# Altium footprint library STM32WL33CCV7.PcbLib: 1 footprints
Each footprint in its own frame and in the unit in brackets; x right, y up, seen from the top. Pads: shape width x height; smd on the part's side, far side on the other; paste and mask are expansions set on the pad; w line width, h text height; cw(c..) or ccw(c..) is an arc to the next point about the centre after c.
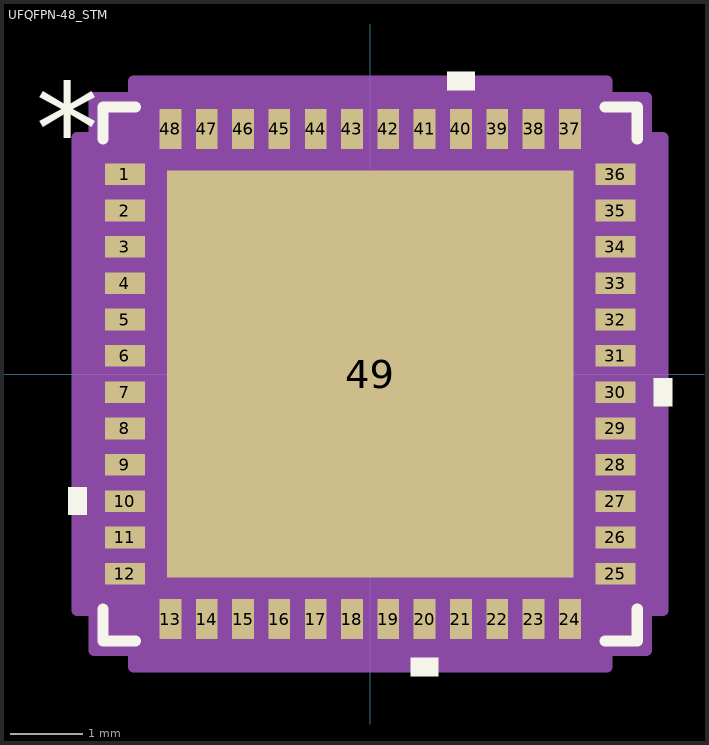
[diagram p0: the footprint, top view; thin cyan lines are the x and y axes]

## UFQFPN-48_STM [mm]
pads (49):
  rect 0.55x0.3 smd paste-0.15 mask-0.279: 1(-3.375,2.751) 2(-3.375,2.251) 3(-3.375,1.75) 4(-3.375,1.25) 5(-3.375,0.75) 6(-3.375,0.25) 7(-3.375,-0.25) 8(-3.375,-0.75) 9(-3.375,-1.25) 10(-3.375,-1.75) 11(-3.375,-2.251) 12(-3.375,-2.751) 25(3.375,-2.751) 26(3.375,-2.251) 27(3.375,-1.75) 28(3.375,-1.25) 29(3.375,-0.75) 30(3.375,-0.25) 31(3.375,0.25) 32(3.375,0.75) 33(3.375,1.25) 34(3.375,1.75) 35(3.375,2.251) 36(3.375,2.751)
  rect 0.3x0.55 smd paste-0.15 mask-0.279: 13(-2.75,-3.375) 14(-2.25,-3.375) 15(-1.75,-3.375) 16(-1.25,-3.375) 17(-0.75,-3.375) 18(-0.25,-3.375) 19(0.25,-3.375) 20(0.75,-3.375) 21(1.25,-3.375) 22(1.75,-3.375) 23(2.25,-3.375) 24(2.75,-3.375) 37(2.75,3.375) 38(2.25,3.375) 39(1.75,3.375) 40(1.25,3.375) 41(0.75,3.375) 42(0.25,3.375) 43(-0.25,3.375) 44(-0.75,3.375) 45(-1.25,3.375) 46(-1.75,3.375) 47(-2.25,3.375) 48(-2.75,3.375)
  rect 5.6x5.6 smd paste-2.8 mask-2.794: 49(0,0)
Top Layer:
  region: 0,2.8
  region: 0,-2.8
Top Overlay:
  region: -3.904,-1.56 -4.158,-1.56 -4.158,-1.941 -3.904,-1.941
  region: 0.941,-3.904 0.56,-3.904 0.56,-4.158 0.941,-4.158
  region: 3.904,-0.06 4.158,-0.06 4.158,-0.441 3.904,-0.441
  region: 1.441,3.904 1.06,3.904 1.06,4.158 1.441,4.158
  lines w0.152: -3.677,-3.232 -3.677,-3.677 -3.232,-3.677 ; -3.677,3.232 -3.677,3.677 -3.232,3.677 ; 3.232,-3.677 3.677,-3.677 3.677,-3.232 ; 3.232,3.677 3.677,3.677 3.677,3.232
  text "*" at -4.603,2.747 h1.27
Top Paste:
  region: -1.5,2.7 -2.7,2.7 -2.7,1.5 -1.5,1.5
  region: -1.5,1.3 -2.7,1.3 -2.7,0.1 -1.5,0.1
  region: -1.5,-0.1 -2.7,-0.1 -2.7,-1.3 -1.5,-1.3
  region: -1.5,-1.5 -2.7,-1.5 -2.7,-2.7 -1.5,-2.7
  region: -0.1,2.7 -1.3,2.7 -1.3,1.5 -0.1,1.5
  region: -0.1,1.3 -1.3,1.3 -1.3,0.1 -0.1,0.1
  region: -0.1,-0.1 -1.3,-0.1 -1.3,-1.3 -0.1,-1.3
  region: -0.1,-1.5 -1.3,-1.5 -1.3,-2.7 -0.1,-2.7
  region: 1.3,2.7 0.1,2.7 0.1,1.5 1.3,1.5
  region: 1.3,1.3 0.1,1.3 0.1,0.1 1.3,0.1
  region: 1.3,-0.1 0.1,-0.1 0.1,-1.3 1.3,-1.3
  region: 1.3,-1.5 0.1,-1.5 0.1,-2.7 1.3,-2.7
  region: 2.7,2.7 1.5,2.7 1.5,1.5 2.7,1.5
  region: 2.7,1.3 1.5,1.3 1.5,0.1 2.7,0.1
  region: 2.7,-0.1 1.5,-0.1 1.5,-1.3 2.7,-1.3
  region: 2.7,-1.5 1.5,-1.5 1.5,-2.7 2.7,-2.7
  region: 0,2.8
  region: 0,2.8
  region: 0,-2.8
  region: 0,-2.8
Top Solder:
  region: 0,2.8
  region: 0,-2.8
Mechanical 13:
  lines w0.025: -3.55,2.28 -2.28,3.55 ; -3.55,-3.55 3.55,-3.55 3.55,3.55 -3.55,3.55 -3.55,-3.55
  text "*" at -3.417,2.747 h1.27
Mechanical 15:
  region: -3.258,-3.804 -3.804,-3.804 -3.804,-3.259 -4.033,-3.259 -4.033,3.259 -3.804,3.259 -3.804,3.804 -3.258,3.804 -3.258,4.033 3.258,4.033 3.258,3.804 3.804,3.804 3.804,3.259 4.033,3.259 4.033,-3.259 3.804,-3.259 3.804,-3.804 3.258,-3.804 3.258,-4.033 -3.258,-4.033
  lines w0.152: -4.033,-3.259 -3.804,-3.259 -3.804,-3.804 -3.258,-3.804 -3.258,-4.033 3.258,-4.033 3.258,-3.804 3.804,-3.804 3.804,-3.259 4.033,-3.259 4.033,3.259 3.804,3.259 3.804,3.804 3.258,3.804 3.258,4.033 -3.258,4.033 -3.258,3.804 -3.804,3.804 -3.804,3.259 -4.033,3.259 -4.033,-3.259